# EAGLE library part RJHSE-5080 (library amphenol-canada)
Mod. Jack, Right Angle, 8 posiotion, 8 contatcs RJ45 Source: https://www.amphenolcanada.com/ProductSearch/drawings/AC/RJHSE5080.pdf
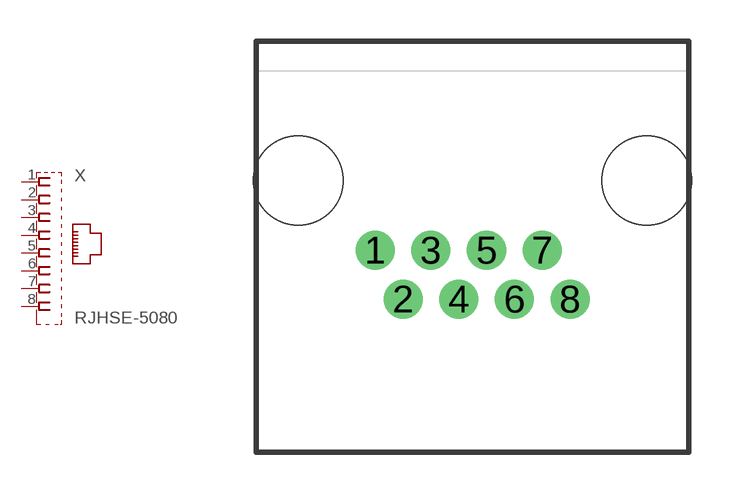
[diagram p0: symbol with the pads of RJHSE-5080; footprint RJHSE-5080]

Designator prefix X

## RJHSE-5080  [RJHSE-5080]
1  1  pas
2  2  pas
3  3  pas
4  4  pas
5  5  pas
6  6  pas
7  7  pas
8  8  pas

## Footprint RJHSE-5080 (pad centres in mm)
Mod. Jack, Right Angle, 8 posiotion, 8 contatcs RJ45 Source: GLX-S-88M.pdf
drill 0.9 pad 1.422: 1 -3.55,-2.54; 2 -2.53,-4.32; 3 -1.52,-2.54; 4 -0.5,-4.32; 5 0.51,-2.54; 6 1.53,-4.32; 7 2.54,-2.54; 8 3.56,-4.32
hole 3.25 at -6.35,0
hole 3.25 at 6.35,0